# EAGLE library part ADS1115IDGST (library ipas)
Analog-to-Digital Converter with Internal Reference
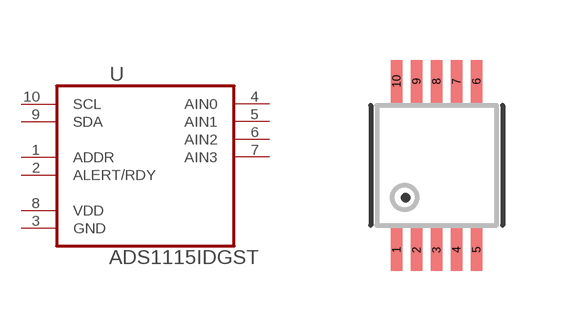
[diagram p16: symbol with the pads of MSOP-10; footprint MSOP-10]

Designator prefix U

## ADS1115IDGST  [MSOP-10]
1  ADDR  in
2  ALERT/RDY  in
3  GND  pas
4  AIN0  in
5  AIN1  in
6  AIN2  in
7  AIN3  in
8  VDD  pwr
9  SDA
10  SCL  in

## Footprint MSOP-10 (pad centres in mm)
smd 0.292 x 1.067: 1 -1,-2.11; 2 -0.5,-2.11; 3 0,-2.11; 4 0.5,-2.11; 5 1,-2.11; 6 1,2.11; 7 0.5,2.11; 8 0,2.11; 9 -0.5,2.11; 10 -1,2.11